# Altium footprint library Cap Film.PcbLib: 1 footprints
Each footprint in its own frame and in the unit in brackets; x right, y up, seen from the top. Pads: shape width x height; smd on the part's side, far side on the other; paste and mask are expansions set on the pad; w line width, h text height; cw(c..) or ccw(c..) is an arc to the next point about the centre after c.
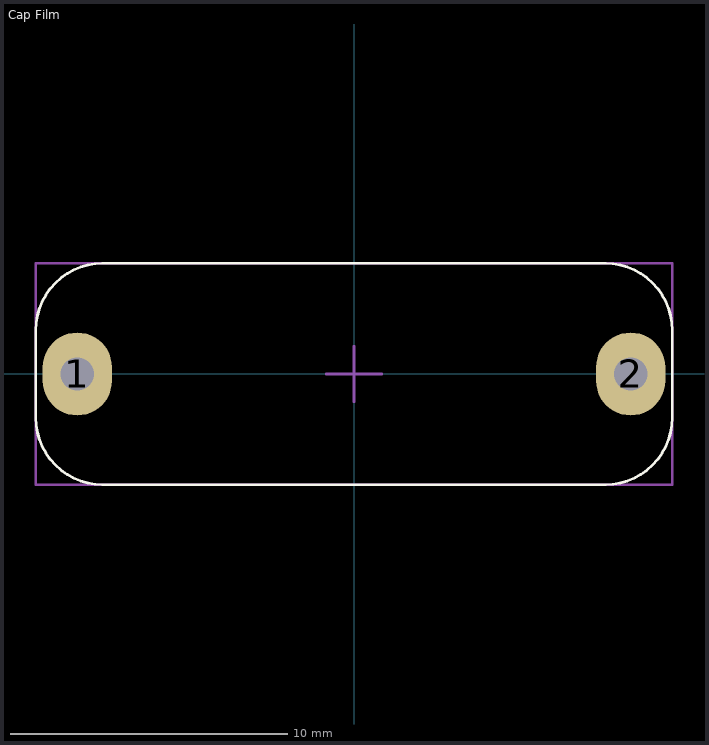
[diagram p0: the footprint, top view; thin cyan lines are the x and y axes]

## Cap Film [mm] "W23_0_H14_5_T8_0_P20"
height 14
pads (2):
  oval 2.5x3 hole 1.2: 1(-10,0) 2(10,0)
Top Overlay:
  lines w0.1: -11.5,-1.587 ccw(c-9.087,-1.587) -9.087,-4 9.087,-4 ccw(c9.087,-1.587) 11.5,-1.587 11.5,0 11.5,1.587 ccw(c9.087,1.587) 9.087,4 0,4 -9.087,4 ccw(c-9.087,1.587) -11.5,1.587 -11.5,0 -11.5,-1.587
Mechanical 15:
  lines w0.1: -1,0 1,0 ; 0,-1 0,1 ; -11.5,-4 11.5,-4 11.5,4 -11.5,4 -11.5,-4
3D body "User Library-CBB81_W23_0_H14_5_T8_0_P19_0.STEP": height 19.5, standoff -8, extent -11.499,-4 11.5,4